# EAGLE library part MICROSD_CONN (library HedgehogLib)
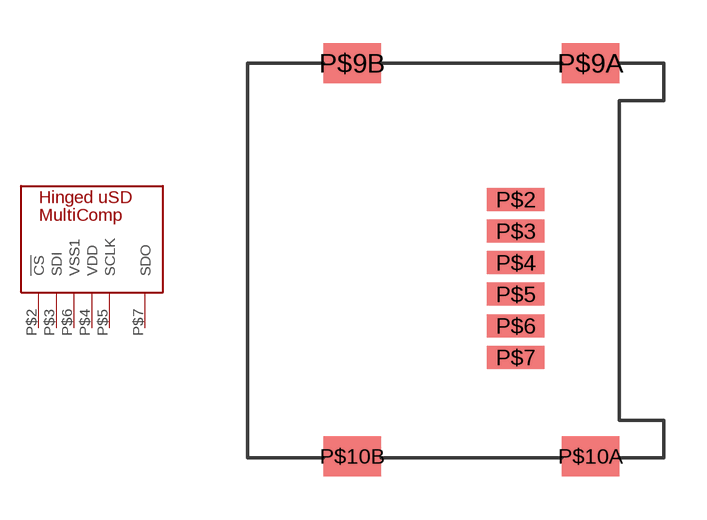
[diagram p2: symbol with the pads of 460DA40013; footprint 460DA40013]

Designator prefix -

## MICROSD_CONN  [460DA40013]
P$2  !CS
P$3  SDI
P$4  VDD
P$5  SCLK
P$6  VSS1
P$7  SDO

## Footprint 460DA40013 (pad centres in mm)
smd 2 x 0.8: P$2 9.35,-4.75; P$3 9.35,-5.85; P$4 9.35,-6.95; P$5 9.35,-8.05; P$6 9.35,-9.15; P$7 9.35,-10.25
smd 2 x 1.4: P$9A 11.95,0; P$9B 3.65,0; P$10A 11.95,-13.7; P$10B 3.65,-13.7